# Altium integrated library Linear Technology Power Management Switching Regulator LTC1174-LTC3901.IntLib: 2647 symbols (part 241 of 364)
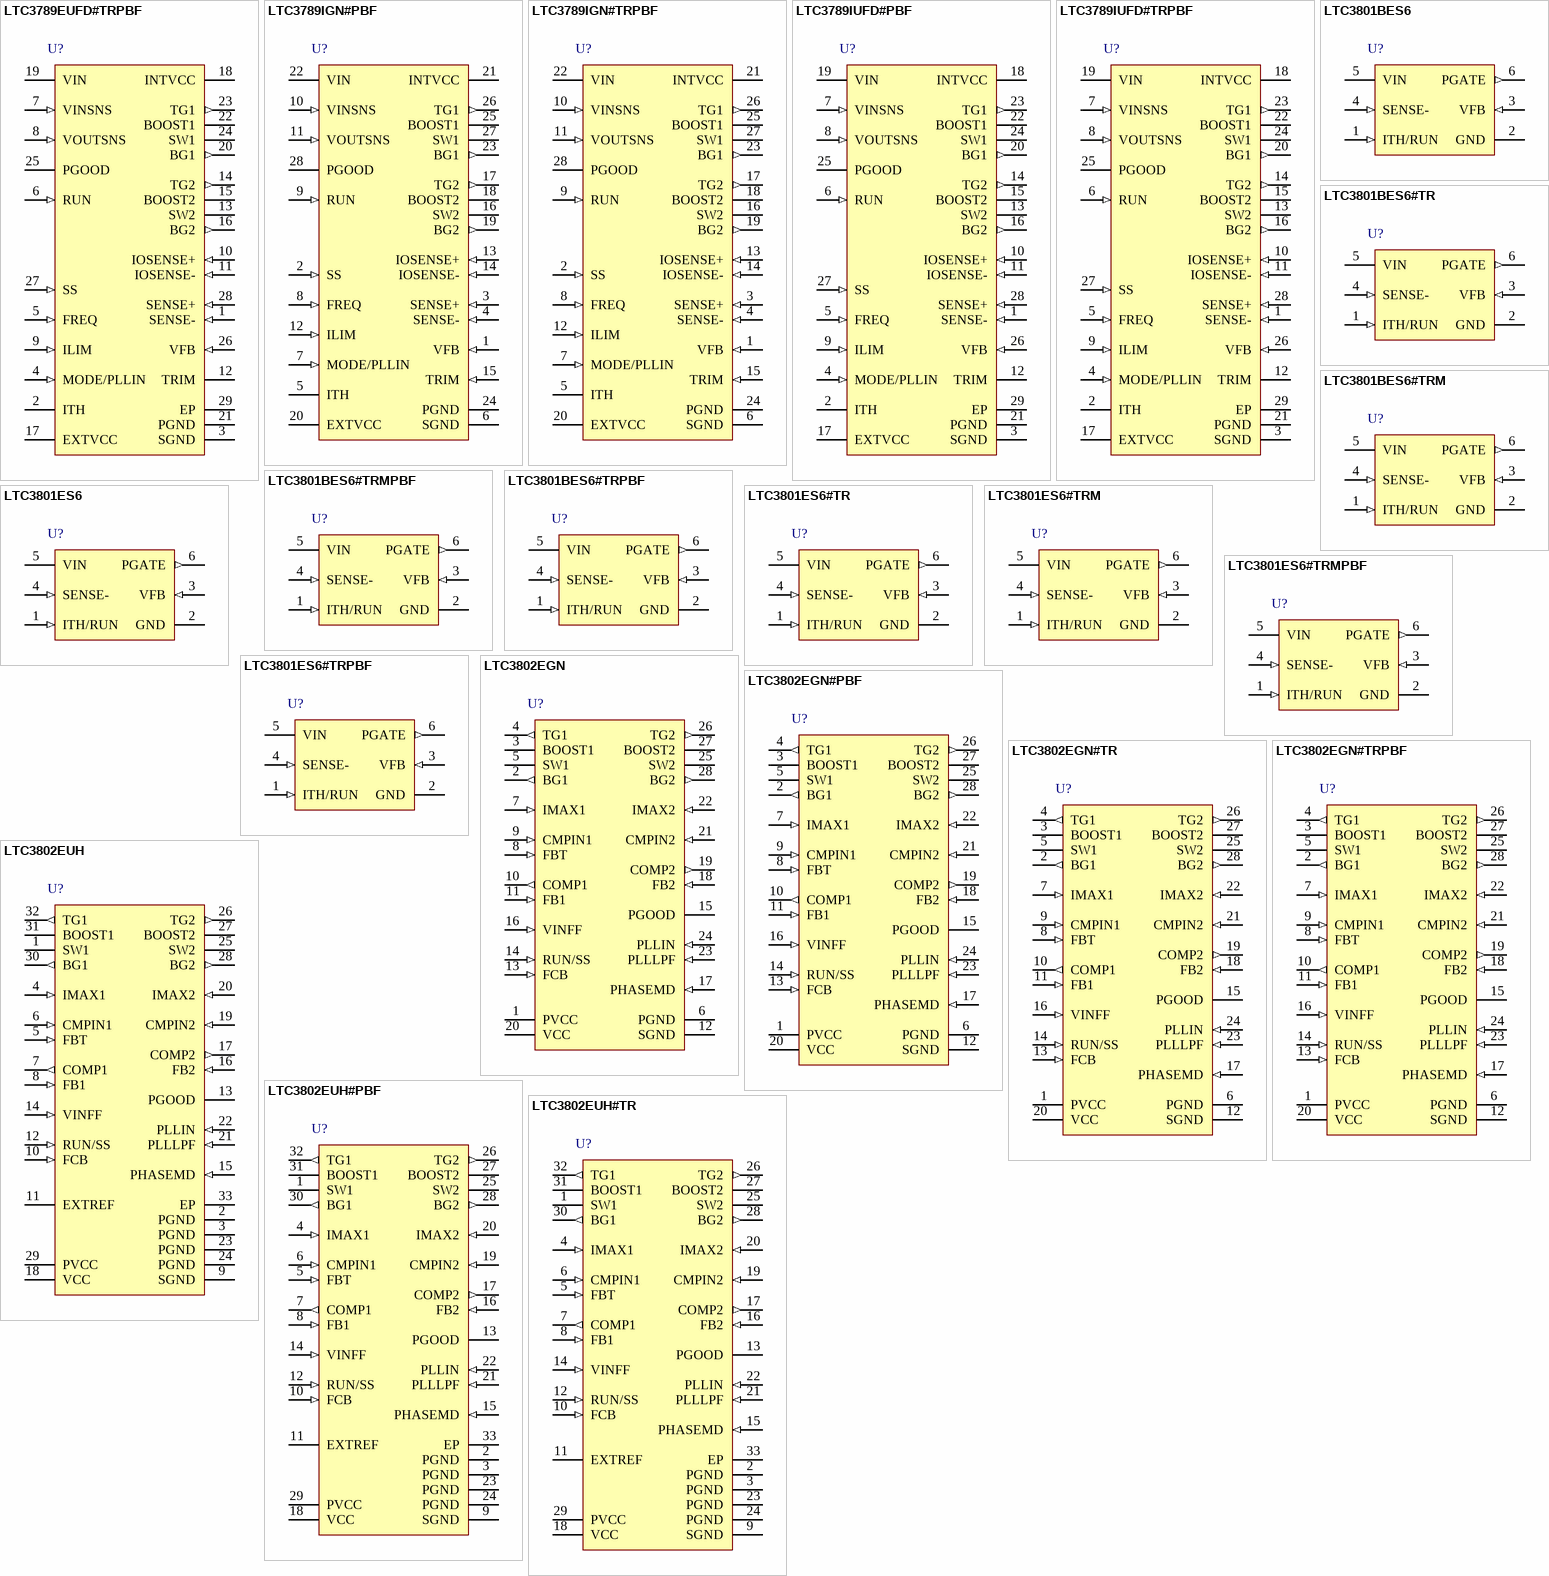
[diagram p339: symbols LTC3789EUFD#TRPBF to LTC3802EUH#TR]

## LTC3789IUFD#PBF
designator U?
High Efficiency, Synchronous, 4-Switch Buck-Boost Controller, 28-pin QFN (UFD-28), -40 to 125 degC, Pb-Free; Manufacturer: Linear Technology; PartNumber: LTC3789IUFD#PBF; Frequency Sync Range: 200kHz - 600kHz; Number of Outputs: 1; DatasheetVersion: Rev. A; PackageVersion: Rev. B, 06/2010; PackageReference: UFD-28; PackageDescription: 28-Pin Plastic QFN, Body 5 x 4 mm, Pitch 0.5 mm; Supplier 1: Digi-Key; Supplier Part Number 1: LTC3789IUFD#PBF-ND; Supplier 2: Newark; Supplier Part Number 2: 24T0458; RoHS: TRUE; Mounting Technology: Surface Mount; Code_JEDEC: MO-220; ComponentLink1Description: Manufacturer URL; ComponentLink1URL: http://www.linear.com/; ComponentLink2Description: Datasheet; ComponentLink2URL: http://cds.linear.com/docs/en/datasheet/3789fa.pdf; ComponentLink3Description: Package Specification; ComponentLink3URL: http://cds.linear.com/docs/en/packaging/QFN_28_05-08-1712.pdf
footprint LT-UFD-28_N (QFN, 28-Leads, Body 5.1x4.1mm, Pitch 0.5mm, Thermal Pad 3.65x2.65mm, IPC Medium Density)
footprint LT-UFD-28_L (QFN, 28-Leads, Body 5.1x4.1mm, Pitch 0.5mm, Thermal Pad 3.65x2.65mm, IPC High Density)
footprint LT-UFD-28_M (QFN, 28-Leads, Body 5.1x4.1mm, Pitch 0.5mm, Thermal Pad 3.65x2.65mm, IPC Low Density)
pins: 1 SENSE- (in) "The (-) Input to the Current Sense  Comparator.", 2 ITH "Error Amplifier Output and Switching Regulator Compensation Point. The channel’s  current comparatortrip pointincreaseswith this control voltage.", 3 SGND (power) "Small Signal Ground. Must be routed separately from high current grounds to the common (-) terminals of the CIN capacitors. In the QFN package, the exposed pad is SGND. It must be soldered to PCB ground for rated thermal (See Datasheet)", 4 MODE/PLLIN (in) "Mode Selection or External Synchronization Input to PhaseDetector. This is a dualpurpose pin. When external frequency synchronization is not used, this pin selects the operating mode. The pin can be tied to SGND or INTVCC. (See Datasheet)", 5 FREQ (in) "FrequencySetPin. Thereis a precision 10uA current flowing out of this pin. A resistor to ground  sets a voltage which, in turn, programs the frequency.  Alternatively, this pin can be driven with a DC voltage to  vary the (See Datasheet)", 6 RUN (in) "Run Control Input. Forcing the pin  below 0.5V shuts down the controller, reducing quies-  cent current. There are 1.2uA pull-up currents for this  pin. Once the RUN pin rises above 1.22V, the IC is turned  on, and an (See Datasheet)", 7 VINSNS (in) "VIN Sense Input to the Buck-Boost  Transition Comparator. Connect this pin to the drain of the  top N-channel MOSFET on the input side.", 8 VOUTSNS (in) "VOUT Sense Input to the BuckBoost Transition Comparator. Connect this pin to the drain  of the top N-channel MOSFET on the output side.", 9 ILIM (in) "Input/Output Average Current Sense Range Input. This pin tied to SGND, INTVCC or  left floating, sets the maximum average current sense  threshold.", 10 IOSENSE+ (in) "The (+) Input to the Input/Output  Average Current Sense Amplifier", 11 IOSENSE- (in) "The (-) Input to the Input/Output  Average Current Sense Amplifier.", 12 TRIM (power) "Tie this pin to GND for normal  operation. Do not allow this pin to float.", 13 SW2 "Switch Node Connections to Inductors. Voltage swing at the SW1  pin is from a Schottky diode (external) voltage drop below ground to VIN. Voltage swing at the SW2 pin is from a Schottky diode voltage drop below ground to V (See Datasheet)", 14 TG2 (out) "High Current Gate Drives for Top N-Channel MOSFETs. These are the outputs of floating drivers with a voltage swing equal to INTVCC - 0.5V superimposed on the switch node voltage SW.", 15 BOOST2 "Bootstrapped Supplies to the Top Side Floating Drivers. Capacitors are connected between the BOOST and SW pins and Schottkydiodes are tiedbetweentheBOOSTandINTVCC pins. Voltage swing at the BOOST1 pin is from INTVCC to (VIN (See Datasheet)", 16 BG2 (out) "High Current Gate Drives for Bottom (Synchronous) N-Channel MOSFETs. Voltage swing at these pins is from ground to  INTVCC.", 17 EXTVCC (power) "External Power Input to an  Internal LDO Connected to INTVCC. This LDO supplies  INTVCC power, bypassing the internal LDO powered from  VIN whenever EXTVCC is higher than 4.8V. See EXTVCC Connection in the Applications (See Datasheet)", 18 INTVCC (power) "Output of the Internal Linear Low  Dropout Regulator. The driver and control circuits are  powered from this voltage source. Must be bypassed to  powergroundwith a minimumof 4.7uF tantalum, ceramic,  or other low ESR (See Datasheet)", 19 VIN (power) "Main Supply Pin. A bypass capa-  citor should be tied between this pin and the signal  ground pin.", 20 BG1 (out) "High Current Gate Drives for Bottom (Synchronous) N-Channel MOSFETs. Voltage swing at these pins is from ground to  INTVCC.", 21 PGND (power) "Driver Power Ground. Connects  to COUT and RSENSE (-) terminal(s) of CIN", 22 BOOST1 "Bootstrapped Supplies to the Top Side Floating Drivers. Capacitors are connected between the BOOST and SW pins and Schottkydiodes are tiedbetweentheBOOSTandINTVCC pins. Voltage swing at the BOOST1 pin is from INTVCC to (VIN (See Datasheet)", 23 TG1 (out) "High Current Gate Drives for Top N-Channel MOSFETs. These are the outputs of floating drivers with a voltage swing equal to INTVCC - 0.5V superimposed on the switch node voltage SW.", 24 SW1 "Switch Node Connections to Inductors. Voltage swing at the SW1  pin is from a Schottky diode (external) voltage drop below ground to VIN. Voltage swing at the SW2 pin is from a Schottky diode voltage drop below ground to V (See Datasheet)", 25 PGOOD (oc) "Open-Drain Logic Output.  PGOOD is pulled to groundwhen the voltage on the VFB pin is notwithin +/-10% ofits regulationwindow, afterthe internal 20us power-bad mask timer expires.", 26 VFB (in) "Error Amplifier Feedback Pin. Receives  the feedback voltage for the controller from an external  resistive divider across the output.", 27 SS (in) "ExternalSoft-StartInput. TheLTC3789 regulates the VFB voltage to the smaller of 0.8V or the voltage on the SS pin. A internal 3uA pull-up current source is connected to this pin. A capacitor to ground at this pin sets the (See Datasheet)", 28 SENSE+ (in) "The (+) Input to the Current Sense  Comparator. The ITH pin voltage and controlled offsets  between the SENSE-  and SENSE+  pins, in conjunction  with RSENSE, set the current trip threshold.", 29 EP (power) "Small Signal Ground. Must be routed separately from high current grounds to the common (-) terminals of the CIN capacitors. In the QFN package, the exposed pad is SGND. It must be soldered to PCB ground for rated thermal (See Datasheet)"